# Altium footprint library CM8V-T1A-32.768KHZ-7PF-20PPM-TA-QC.PcbLib: 1 footprints
Each footprint in its own frame and in the unit in brackets; x right, y up, seen from the top. Pads: shape width x height; smd on the part's side, far side on the other; paste and mask are expansions set on the pad; w line width, h text height; cw(c..) or ccw(c..) is an arc to the next point about the centre after c.
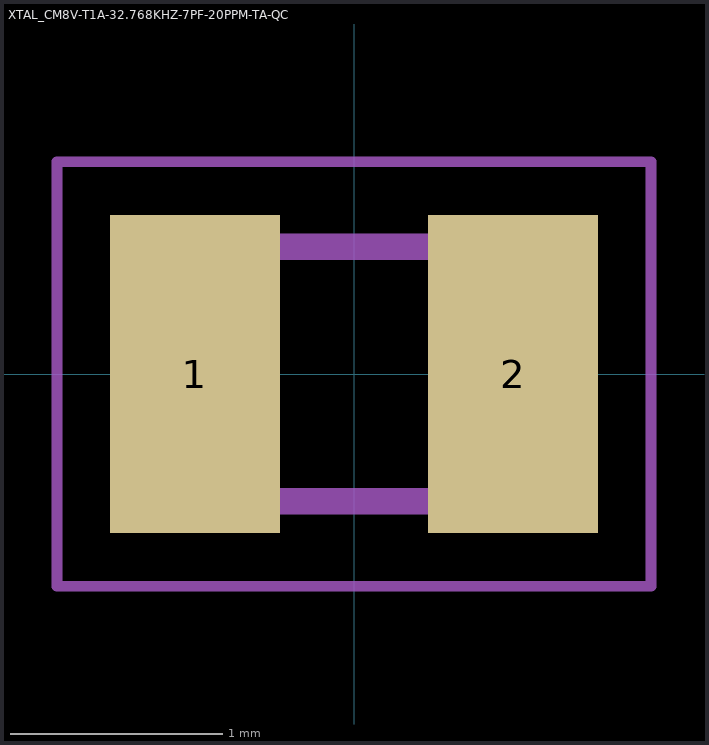
[diagram p0: the footprint, top view; thin cyan lines are the x and y axes]

## XTAL_CM8V-T1A-32.768KHZ-7PF-20PPM-TA-QC [mm]
pads (2):
  rect 0.8x1.5 smd: 1(-0.75,0) 2(0.75,0)
Mechanical 13:
  lines w0.127: -1,-0.6 1,-0.6 1,0.6 -1,0.6 -1,-0.6
Mechanical 15:
  lines w0.05: -1.4,-1 1.4,-1 1.4,1 -1.4,1 -1.4,-1
3D body "step_temp.STEP": height 0.6, standoff 0, extent -1,-0.6 1,0.6